# Altium schematic symbol library WB_DIODE_TRANS.SchLib: 3 symbols
Pins are listed as number, name and electrical type; pins without a type are passive.

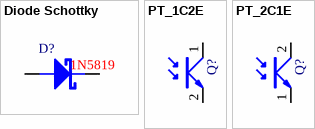
[diagram p0: symbols Diode Schottky to PT_2C1E]

## Diode Schottky
designator D?, comment 1N5819
DIODE; VALUE: 1N5819
footprint SOD-123F_L2.7-W1.7-LS3.6-RD
pins: 1 A, 2 K

## PT_1C2E
designator Q?, comment PT940-球头-侧贴-恒精  (value not drawn)
DIODE PT; VALUE: PT940-球头-侧贴-恒精
footprint 1206-PT-A
pins: 1 C, 2 E

## PT_2C1E
designator Q?, comment PT940-球头-侧贴-恒精  (value not drawn)
DIODE PT; VALUE: PT940-球头-侧贴-恒精
footprint 1206-PT-A
pins: 1 E, 2 C